# EAGLE library part TPS563207DRLR (library --CoolTeamLib)
4.3-V TO 17-V INPUT, 3-A SYNCHRO Source: Datasheet <https://www.ti.com/lit/ds/symlink/tps563207.pdf?ts=1604418509242&ref_url=https%3A%2F%2Fwww.ti.com%2Fstore%2Fti%2Fen%2Fp%2Fproduct%2F%3Fp%3DTPS563207DRLR>
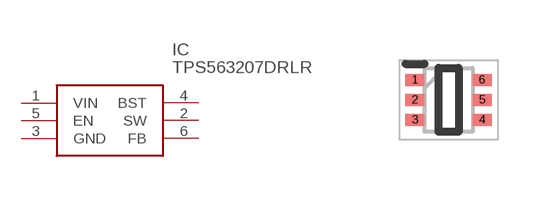
[diagram p4: symbol with the pads of SOTFL50P160X60-6N; footprint SOTFL50P160X60-6N]

Designator prefix IC

## TPS563207DRLR (DESCRIPTION: 4.3-V TO 17-V INPUT, 3-A SYNCHRO; HEIGHT: 0.6mm; MANUFACTURER_NAME: Texas Instruments; MANUFACTURER_PART_NUMBER: TPS563207DRLR; MOUSER_PART_NUMBER: 595-TPS563207DRLR; MOUSER_PRICE-STOCK: https://www.mouser.co.uk/ProductDetail/Texas-Instruments/TPS563207DRLR?qs=zW32dvEIR3sGbPuBspfmjQ%3D%3D)  [SOTFL50P160X60-6N]
1  VIN
2  SW
3  GND
4  BST
5  EN
6  FB

## Footprint SOTFL50P160X60-6N (pad centres in mm)
DRL0006A
smd 0.475 x 0.3: 1 -0.838,0.5; 2 -0.838,0; 3 -0.838,-0.5; 4 0.838,-0.5; 5 0.838,0; 6 0.838,0.5